# EAGLE library part MCP1501T-40E/CHY (library ATMEGA328PB-AN)
MCP1501: 4.096 Voltage Reference Specifications Manufacture: Microchip Package: SOT-23-6 Output Voltage: 4.096 V Max Input Voltage: 5.5 V Datasheet: MCP1501 <https://www.mouser.com/datasheet/2/268/20005474C-961722.pdf> Mouser Part #: 579-MCP1501T-40E/CHY <https://www.mouser.com/ProductDetail/579-MCP1501T-40E-CHY>
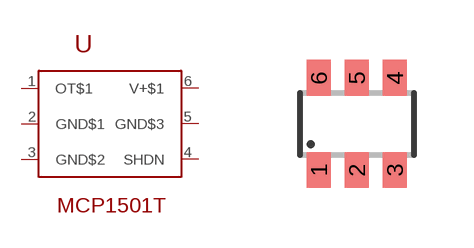
[diagram p4: symbol with the pads of SOT23-6; footprint SOT23-6]

Designator prefix U

## MCP1501T-40E/CHY  [SOT23-6]
1  OT$1  out
2  GND$1  pwr
3  GND$2  pwr
4  SHDN
5  GND$3  pwr
6  V+$1  pwr

## Footprint SOT23-6 (pad centres in mm)
Small Outline Transistor 6 lead
smd 0.6 x 0.9: 1 -0.95,-1.15; 2 0,-1.15; 3 0.95,-1.15; 4 0.95,1.15; 5 0,1.15; 6 -0.95,1.15